# Altium schematic symbol library LM3478_DGK_8.SchLib: 2 symbols
Pins are listed as number, name and electrical type; pins without a type are passive.

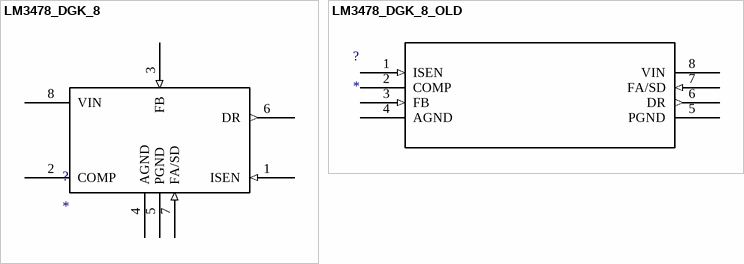
[diagram p0: symbols LM3478_DGK_8 to LM3478_DGK_8_OLD]

## LM3478_DGK_8
designator ?
Imported; Manufacturer_Part_Number: lm3478mmnopb; Vendor: National; RefDes: RefDes; Type: DEV; Value: Value
footprint MUA08A
pins: 1 ISEN (in), 2 COMP, 3 FB (in), 4 AGND (power), 5 PGND (power), 6 DR (out), 7 FA/SD (in), 8 VIN (power)

## LM3478_DGK_8_OLD
designator ?
Imported; Manufacturer_Part_Number: lm3478mmnopb; Vendor: National; RefDes: RefDes; Type: DEV; Value: Value
footprint MUA08A
pins: 1 ISEN (in), 2 COMP, 3 FB (in), 4 AGND (power), 5 PGND (power), 6 DR (out), 7 FA/SD (in), 8 VIN (power)